# Altium footprint library T-MIXRF.PcbLib: 1 footprints
Each footprint in its own frame and in the unit in brackets; x right, y up, seen from the top. Pads: shape width x height; smd on the part's side, far side on the other; paste and mask are expansions set on the pad; w line width, h text height; cw(c..) or ccw(c..) is an arc to the next point about the centre after c.
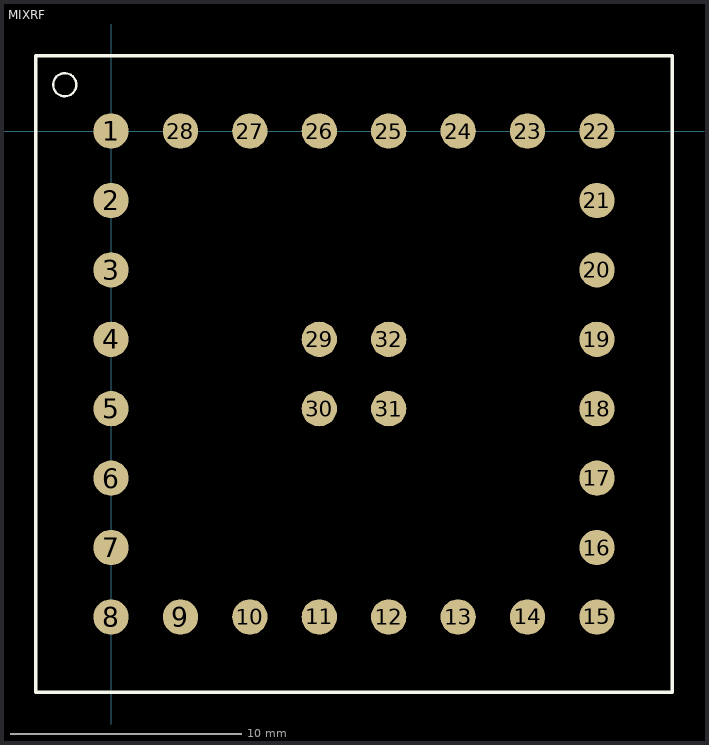
[diagram p0: the footprint, top view; thin cyan lines are the x and y axes]

## MIXRF [mil]
pads (32):
  round 60 smd: 1(0,0) 2(0,-118.11) 3(0,-236.22) 4(0,-354.33) 5(0,-472.44) 6(0,-590.55) 7(0,-708.66) 8(0,-826.77) 9(118.11,-826.77) 10(236.22,-826.77) 11(354.33,-826.77) 12(472.44,-826.77) 13(590.55,-826.77) 14(708.66,-826.77) 15(826.77,-826.77) 16(826.77,-708.66) 17(826.77,-590.55) 18(826.77,-472.44) 19(826.77,-354.33) 20(826.77,-236.22) 21(826.77,-118.11) 22(826.77,0) 23(708.66,0) 24(590.55,0) 25(472.44,0) 26(354.33,0) 27(236.22,0) 28(118.11,0) 29(354.33,-354.33) 30(354.33,-472.44) 31(472.44,-472.44) 32(472.44,-354.33)
Top Overlay:
  circle w3.94: c-78.74,78.74 r19.68
  lines w6: -127.95,-954.72 954.72,-954.72 954.72,127.95 -127.95,127.95 -127.95,-954.72